# Altium footprint library DIODES PTH.PcbLib: 146 footprints (part 8 of 10)
Each footprint in its own frame and in the unit in brackets; x right, y up, seen from the top. Pads: shape width x height; smd on the part's side, far side on the other; paste and mask are expansions set on the pad; w line width, h text height; cw(c..) or ccw(c..) is an arc to the next point about the centre after c.
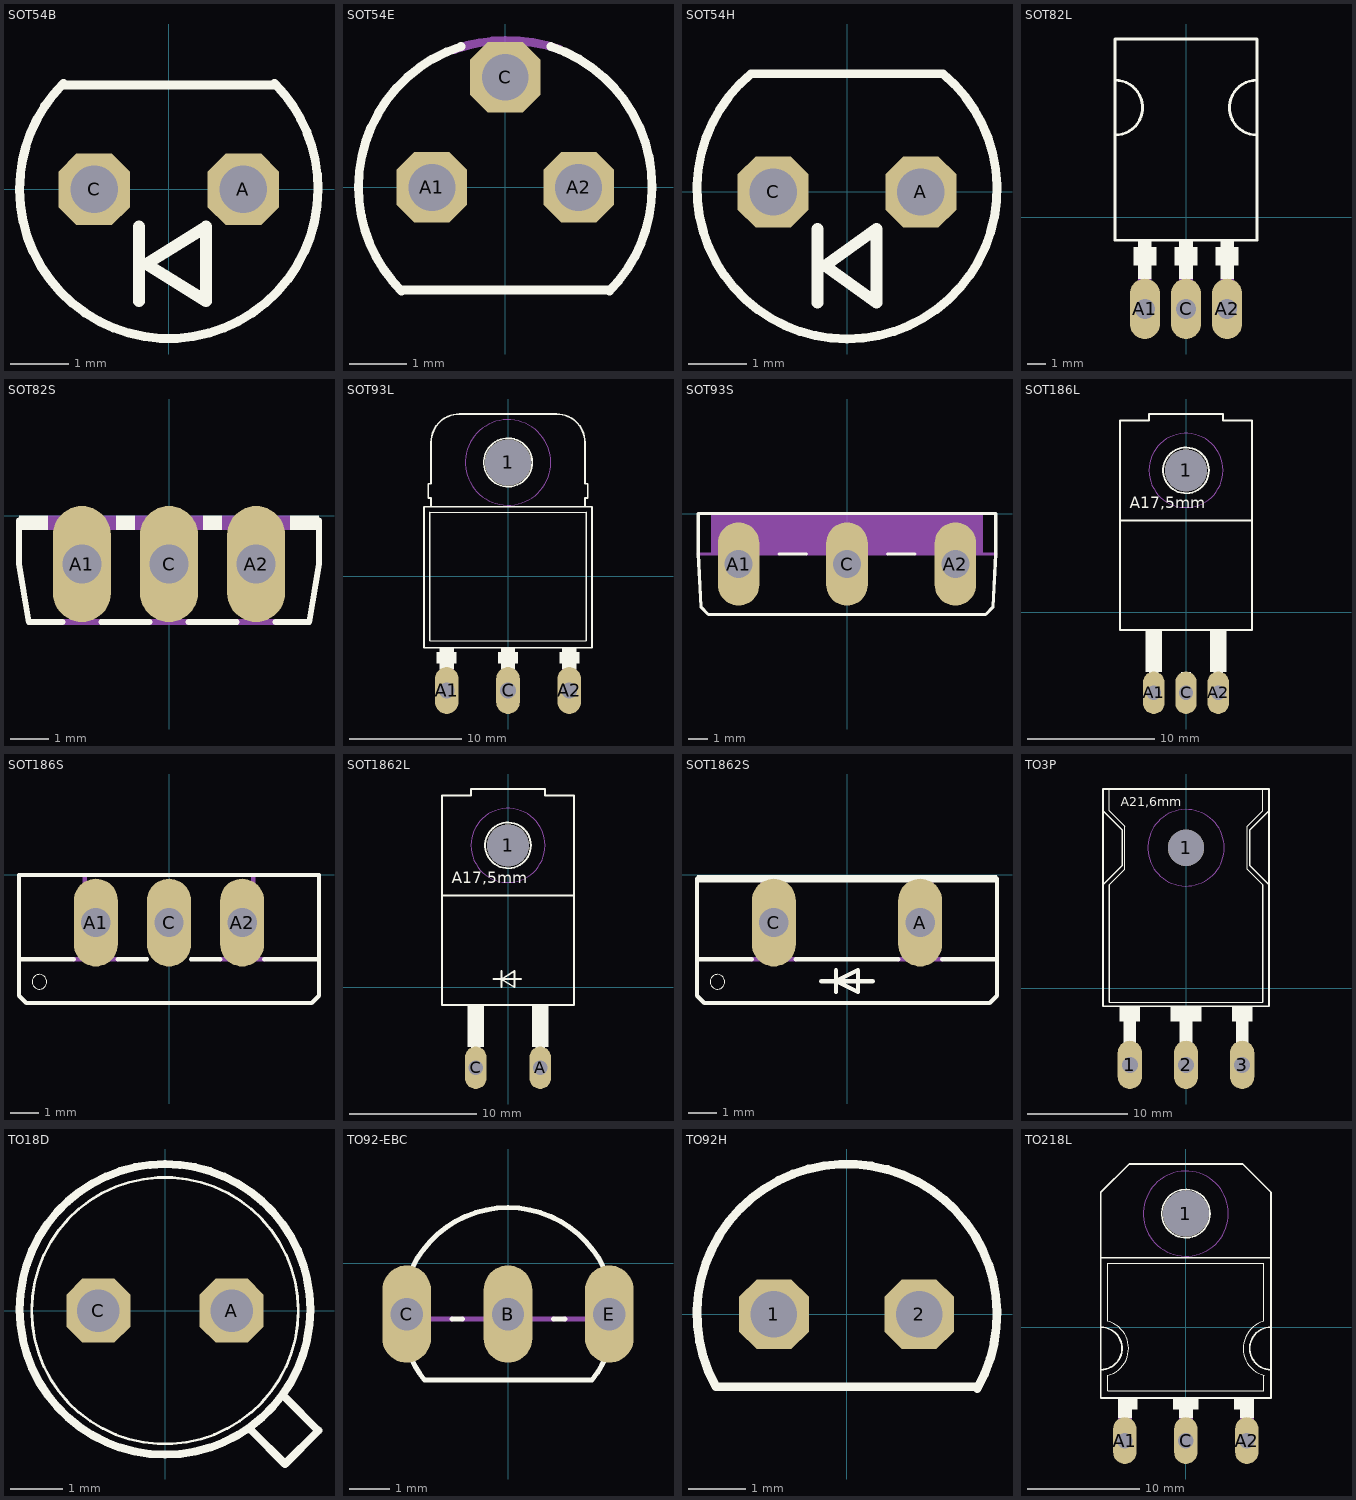
[diagram p7: the footprints below, top view; thin cyan lines are the x and y axes]

## SOT54B [mil]
pads (2):
  oct 48x48 hole 32: A(50,0) C(-50,0)
Top Overlay:
  lines w6: -70.71,71 ccw(c0.35,0.15) -100,0 ccw(c0,0) 100,0 ccw(c-0.2,0.49) 71,71 ; -70,70 70,70
  lines w8: -20,-75 -20,-25 ; -15,-50 25,-25 25,-75 -15,-50

## SOT54E [mil]
pads (3):
  oct 48x48 hole 32: A1(-50,0) A2(50,0) C(0,75)
Top Overlay:
  lines w6: -70.71,-70.71 cw(c0,0) -100,0 cw(c0.44,0.32) -30.11,96 ; -70,-70 70,-70 ; 31,96 cw(c0.01,0.93) 100,0 cw(c0.14,-0.35) 71,-70.71
Mechanical 16:
  lines w6: -34.57,94 cw(c-0.46,0.08) 0,100 cw(c2.51,-1.62) 37,94

## SOT54H [mil]
pads (2):
  oct 48x48 hole 32: A(50,0) C(-50,0)
Top Overlay:
  lines w6: -65,80 ccw(c0,2) 65,80 -65,80
  lines w8: -20,-75 -20,-25 ; -15,-50 20,-25 20,-75 -15,-50

## SOT82L [mil]
pads (3):
  oval 66x132 hole 44: A1(-90,-200) A2(90,-200) C(0,-200)
Top Overlay:
  rectangle: -25,-105 25,-65
  rectangle: 65,-105 115,-65
  rectangle: -115,-105 -65,-65
  rectangle: -105,-135 -75,-50
  rectangle: -15,-135 15,-50
  rectangle: 75,-135 105,-50
  lines w6: -155,180 ccw(c-155,240) -155,300 ; -155,180 -155,-50 155,-50 155,180 ; -155,180 -155,300 ; -155,300 -155,390 155,390 155,300 ; 155,180 cw(c155,240) 155,300 ; 155,180 155,300
Mechanical 16:
  rectangle: -105,-195 -75,-135
  rectangle: -15,-195 15,-135
  rectangle: 75,-195 105,-135

## SOT82S [mil]
pads (3):
  oval 60x120 hole 40: A1(-90,-50) A2(90,-50) C(0,-50)
Top Overlay:
  rectangle: 125,-15 155,0
  rectangle: 35,-15 55,0
  rectangle: -55,-15 -35,0
  rectangle: -155,-15 -125,0
  lines w6: -155,-5 -155,-50 -145,-110 -110,-110 ; -70,-110 -20,-110 ; 20,-110 70,-110 ; 110,-110 145,-110 155,-50 155,-5
Mechanical 16:
  rectangle: 55,-15 125,0
  rectangle: -35,-15 35,0
  rectangle: -125,-15 -55,0
  lines w6: -110,-110 -70,-110 ; -20,-110 20,-110 ; 70,-110 110,-110

## SOT93L [mil]
pads (4):
  round 162 hole 162: 1(0,400)
  oval 82.5x165 hole 55: A1(-215,-400) A2(215,-400) C(0,-400)
Top Overlay:
  circle w6: c0,400 r85
  rectangle: -35,-305 35,-265
  rectangle: 190,-325 240,-250
  rectangle: -25,-325 25,-250
  rectangle: -240,-325 -190,-250
  rectangle: 180,-305 250,-265
  rectangle: -250,-305 -180,-265
  lines w2: -275,-225 275,-225 ; -275,225 275,225
  lines w6: -275,-225 -275,225 ; 275,-225 275,225 ; -270,245 270,245 ; -270,245 -295,245 -295,-250 295,-250 295,245 270,245 ; -270,245 -270,275 -280,275 -280,325 -270,325 -270,470 cw(c-170,470) -170,570 170,570 cw(c170,470) 270,470 270,325 280,325 280,275 270,275 270,245
Mechanical 9:
  circle w0: c0,400 r150
Mechanical 10:
  circle w0: c0,400 r150
Mechanical 16:
  rectangle: 190,-400 240,-325
  rectangle: -25,-400 25,-325
  rectangle: -240,-400 -190,-325
  rectangle: -240,-385 -190,-350

## SOT93S [mil]
pads (3):
  oval 82.5x165 hole 55: A1(-215,-100) A2(215,-100) C(0,-100)
Top Overlay:
  lines w6: -135,-80 -80,-80 ; 80,-80 135,-80 ; -295,-80 -295,0 295,0 295,-80 290,-185 275,-200 -275,-200 -290,-185 -295,-80
Mechanical 16:
  rectangle: -270,-80 270,0
  lines w6: -295,-80 -135,-80 ; -80,-80 80,-80 ; 135,-80 295,-80

## SOT186L [mil]
pads (4):
  round 130 hole 130: 1(0,440)
  oval 66x132 hole 44: A1(-100,-250) A2(100,-250) C(0,-250)
Top Overlay:
  circle w6: c0,440 r71
  rectangle: -125,-185 -75,-55
  rectangle: 75,-185 125,-55
  rectangle: 85,-190 115,-185
  rectangle: -115,-190 -85,-185
  rectangle: -15,-190 15,-185
  lines w6: -205,285 -205,-55 205,-55 205,285 ; -205,285 205,285 ; -205,285 -205,595 -115,595 -115,615 115,615 115,595 205,595 205,285
  text "A17,5mm" at -175,310 h60.45
Mechanical 9:
  circle w0: c0,440 r115
Mechanical 10:
  circle w0: c0,440 r115
Mechanical 16:
  rectangle: 85,-255 115,-190
  rectangle: -115,-255 -85,-190
  rectangle: -15,-255 15,-190

## SOT186S [mil]
pads (3):
  oval 60x120 hole 40: A1(-100,-65) A2(100,-65) C(0,-65)
Top Overlay:
  circle w0: c-177,-146 r10
  lines w6: -130,-115 -205,-115 ; -70,-115 -30,-115 ; 30,-115 70,-115 ; 130,-115 205,-115 ; -205,-115 -205,-165 -195,-175 195,-175 205,-165 205,-115 ; -205,-115 -205,0 205,0 205,-115
Mechanical 16:
  lines w6: -130,-115 -115,-115 ; -115,0 -115,-115 ; -70,-115 -115,-115 ; 70,-115 115,-115 ; 115,0 115,-115 ; 130,-115 115,-115

## SOT1862L [mil]
pads (3):
  round 130 hole 130: 1(0,440)
  oval 66x132 hole 44: A(100,-250) C(-100,-250)
Top Overlay:
  circle w6: c0,440 r71
  rectangle: -125,-185 -75,-55
  rectangle: 75,-185 125,-55
  rectangle: 85,-190 115,-185
  rectangle: -115,-190 -85,-185
  lines w6: -45,25 -20,25 ; -20,0 -20,25 ; -20,50 -20,25 ; 40,25 -20,25 ; -205,285 -205,-55 205,-55 205,285 ; -205,285 205,285 ; -205,285 -205,595 -115,595 -115,615 115,615 115,595 205,595 205,285 ; -20,25 20,0 20,50 -20,25
  text "A17,5mm" at -175,310 h60.45
Mechanical 9:
  circle w0: c0,440 r115
Mechanical 10:
  circle w0: c0,440 r115
Mechanical 16:
  rectangle: 85,-255 115,-190
  rectangle: -115,-255 -85,-190

## SOT1862S [mil]
pads (2):
  oval 60x120 hole 40: A(100,-65) C(-100,-65)
Top Overlay:
  circle w0: c-177,-146 r10
  rectangle: -205,-10 205,0
  lines w6: -205,-5 -205,-115 ; -130,-115 -205,-115 ; -70,-115 70,-115 ; -35,-145 -15,-145 ; -15,-160 -15,-145 ; -15,-130 -15,-145 ; 35,-145 -15,-145 ; 130,-115 205,-115 ; 205,-5 205,-115 ; -205,-115 -205,-165 -195,-175 195,-175 205,-165 205,-115 ; -15,-145 15,-160 15,-130 -15,-145
Mechanical 16:
  lines w6: -130,-115 -115,-115 ; -115,-5 -115,-115 ; -70,-115 -115,-115 ; 70,-115 115,-115 ; 115,-5 115,-115 ; 130,-115 115,-115

## TO3P [mil]
pads (4):
  oval 94.5x189 hole 63: 1(-220,-300) 2(0,-300) 3(220,-300)
  round 142 hole 142: 1(0,550)
Top Overlay:
  circle w6: c0,550 r65
  rectangle: -60,-130 60,-70
  rectangle: 180,-130 260,-70
  rectangle: -25,-220 25,-130
  rectangle: 195,-220 245,-130
  rectangle: -260,-130 -180,-70
  rectangle: -245,-220 -195,-130
  lines w2: -300,-55 300,-55 ; -300,405 -240,465 -240,635 -300,695 -300,780 ; 300,405 240,465 240,635 300,695 300,780
  lines w6: -300,-55 -300,405 ; 300,-55 300,405 ; -325,405 -325,-70 325,-70 325,405 ; -325,405 -250,480 -250,620 -325,695 ; -325,405 -325,695 ; -325,695 -325,780 -300,780 300,780 325,780 325,695 ; 325,405 325,695 ; 325,405 250,480 250,620 325,695
  text "A21,6mm" at -255,700 h60.45
Mechanical 9:
  circle w0: c0,550 r150
Mechanical 10:
  circle w0: c0,550 r150
Mechanical 16:
  rectangle: -245,-295 -195,-220
  rectangle: -25,-295 25,-220
  rectangle: 195,-295 245,-220

## TO18D [mil]
pads (2):
  oct 48x48 hole 32: A(50,0) C(-50,0)
Top Overlay:
  circle w2: c0,0 r100
  circle w6: c0,1 r109
  lines w6: 65,-90 90,-115 115,-90 90,-65

## TO92-EBC [mil]
pads (3):
  oval 48x96 hole 32: B(0,-50) C(-100,-50) E(100,-50)
Top Overlay:
  lines w5: -95.02,-94.72 ccw(c-0.02,-50) -82.48,-115 83,-115 ccw(c0.55,-49.91) 96,-93.77 ; -95,-5.28 cw(c0,-50) 95,-5.28 ; -55.28,-55 -44.72,-55 ; 45,-55 56,-55
Mechanical 16:
  lines w5: -104.88,-55 -55.28,-55 ; -95,-94.72 cw(c0,-50) -95,-5.28 ; -44.72,-55 45,-55 ; 56,-55 105,-55 ; 95,-94.72 ccw(c0,-50) 95,-5.28

## TO92H [mil]
pads (2):
  oct 48x48 hole 32: 1(-50,0) 2(50,0)
Top Overlay:
  lines w6: 90,-51.08 ccw(c0.3,0.17) -90,-50 90,-50

## TO218L [mil]
pads (4):
  round 162 hole 162: 1(0,400)
  oval 82.5x165 hole 55: A1(-215,-400) A2(215,-400) C(0,-400)
Top Overlay:
  circle w6: c0,400 r85
  rectangle: 190,-320 240,-250
  rectangle: -25,-320 25,-250
  rectangle: -240,-320 -190,-250
  rectangle: -45,-290 45,-250
  rectangle: 170,-290 240,-250
  rectangle: -240,-290 -170,-250
  lines w2: 274,20 ccw(c300.69,-74.73) 276,-169.99 ; 275,-170 275,-225 -275,-225 -275,-170 ccw(c-300,-75) -275,20 -275,225 275,225 275,20
  lines w6: -300,-150 ccw(c-300,-75) -300,0 ; -300,-150 -300,0 ; -300,-150 -300,-250 300,-250 300,-150 ; -300,0 -300,245 ; -300,245 -300,475 -200,575 200,575 300,475 300,245 ; -300,245 300,245 ; 300,-150 cw(c300,-75) 300,0 ; 300,-150 300,0 ; 300,0 300,245
Mechanical 9:
  circle w0: c0,400 r150
Mechanical 10:
  circle w0: c0,400 r150
Mechanical 16:
  rectangle: 190,-405 240,-320
  rectangle: -25,-405 25,-320
  rectangle: -240,-405 -190,-320